# EAGLE library part LT4363-2 (library lib_stankus)
Linear LT4363 surge stopper
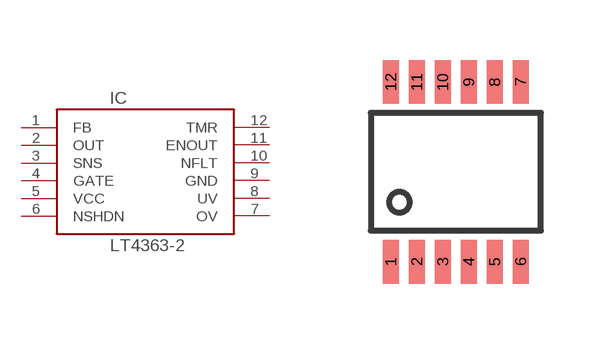
[diagram p65: symbol with the pads of MSOP12; footprint MSOP12]

Designator prefix IC

## LT4363-2-MSOP12  [MSOP12]
1  FB  pas
2  OUT  pas
3  SNS  pas
4  GATE  pas
5  VCC  pas
6  NSHDN  pas
7  OV  pas
8  UV  pas
9  GND  pas
10  NFLT  pas
11  ENOUT  pas
12  TMR  pas

## Footprint MSOP12 (pad centres in mm)
MSOP12
smd 0.4 x 1.1: 1 -1.625,-2.25; 2 -0.975,-2.25; 3 -0.325,-2.25; 4 0.325,-2.25; 5 0.975,-2.25; 6 1.625,-2.25; 7 1.625,2.25; 8 0.975,2.25; 9 0.325,2.25; 10 -0.325,2.25; 11 -0.975,2.25; 12 -1.625,2.25